# EAGLE library part PINHD-1X08 (library untitled)
PIN HEADER
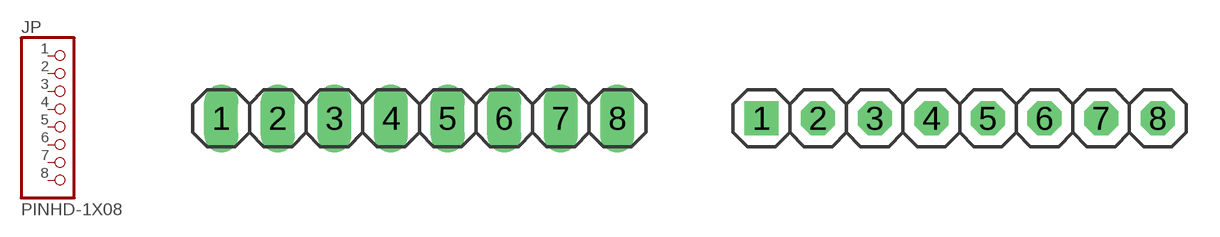
[diagram p2: symbol with the pads of 1X08; footprints 1X08, 1X08-S]

Designator prefix JP

## PINHD-1X08_2.54  [1X08]
1  1  pas
2  2  pas
3  3  pas
4  4  pas
5  5  pas
6  6  pas
7  7  pas
8  8  pas

## PINHD-1X08_2.54-S  [1X08-S]
Pads as for 1X08

## PINHD-1X08_2.54-90°  [1X08/90]
Pads as for 1X08

## PINHD-1X08_2.54-90°-S  [1X08/90-S]
Pads as for 1X08

## PINHD-1X08_2.00  [1X08M]
Pads as for 1X08

## PINHD-1X08_2.54-SMD  [1X08SMD]
Pads as for 1X08

## PINHD-1X08_2.54-SMD-90°  [1X08SMD/90]
Pads as for 1X08

## Footprint 1X08 (pad centres in mm)
PIN HEADER - 2.54
drill 1.016 long: 1 -8.89,0; 2 -6.35,0; 3 -3.81,0; 4 -1.27,0; 5 1.27,0; 6 3.81,0; 7 6.35,0; 8 8.89,0

## Footprint 1X08-S (pad centres in mm)
PIN HEADER - 2.54
drill 1.016 square: 1 -8.89,0
drill 1.016 octagon: 2 -6.35,0; 3 -3.81,0; 4 -1.27,0; 5 1.27,0; 6 3.81,0; 7 6.35,0; 8 8.89,0

## Footprint 1X08/90 (pad centres in mm)
PIN HEADER - 2.54 90°
drill 1.016 long: 1 -8.89,-3.81; 2 -6.35,-3.81; 3 -3.81,-3.81; 4 -1.27,-3.81; 5 1.27,-3.81; 6 3.81,-3.81; 7 6.35,-3.81; 8 8.89,-3.81

## Footprint 1X08/90-S (pad centres in mm)
PIN HEADER - 2.54 90°
drill 1.016 square: 1 -8.89,-3.81
drill 1.016 octagon: 2 -6.35,-3.81; 3 -3.81,-3.81; 4 -1.27,-3.81; 5 1.27,-3.81; 6 3.81,-3.81; 7 6.35,-3.81; 8 8.89,-3.81

## Footprint 1X08M (pad centres in mm)
PIN HEADER - 2
drill 0.914 square: 1 -7,0
drill 0.914 round: 2 -5,0; 3 -3,0; 4 -1,0; 5 1,0; 6 3,0; 7 5,0; 8 7,0

## Footprint 1X08SMD (pad centres in mm)
PIN HEADER - 2.54 SMD
smd 1.016 x 3.302: 1 -1.27,1.27; 2 1.27,-1.27; 3 3.81,1.27; 4 6.35,-1.27; 5 8.89,1.27; 6 11.43,-1.27; 7 13.97,1.27; 8 16.51,-1.27

## Footprint 1X08SMD/90 (pad centres in mm)
PIN HEADER - 2.54 90°
smd 1.016 x 1.778: 1 -1.27,-5.08; 2 1.27,-5.08; 3 3.81,-5.08; 4 6.35,-5.08; 5 8.89,-5.08; 6 11.43,-5.08; 7 13.97,-5.08; 8 16.51,-5.08